# Altium schematic symbol library Type-C.SchLib: 3 symbols
Pins are listed as number, name and electrical type; pins without a type are passive.

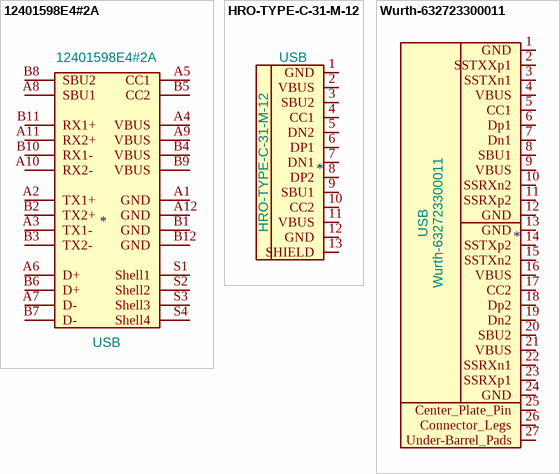
[diagram p0: symbols 12401598E4#2A to Wurth-632723300011]

## 12401598E4#2A
designator USB  value 12401598E4#2A
pins: A1 GND, A2 TX1+, A3 TX1-, A4 VBUS, A5 CC1, A6 D+, A7 D-, A8 SBU1, A9 VBUS, A10 RX2-, A11 RX2+, A12 GND, B1 GND, B2 TX2+, B3 TX2-, B4 VBUS, B5 CC2, B6 D+, B7 D-, B8 SBU2, B9 VBUS, B10 RX1-, B11 RX1+, B12 GND, S1 Shell1, S2 Shell2, S3 Shell3, S4 Shell4

## HRO-TYPE-C-31-M-12
designator USB  value HRO-TYPE-C-31-M-12
footprint HRO-TYPE-C-31-M-12
pins: 1 GND (power), 2 VBUS (power), 3 SBU2, 4 CC1, 5 DN2 (io), 6 DP1 (io), 7 DN1 (io), 8 DP2 (io), 9 SBU1, 10 CC2, 11 VBUS (power), 12 GND (power), 13 SHIELD

## Wurth-632723300011
designator USB  value Wurth-632723300011
pins: 1 GND, 2 SSTXXp1, 3 SSTXn1, 4 VBUS, 5 CC1, 6 Dp1, 7 Dn1, 8 SBU1, 9 VBUS, 10 SSRXn2, 11 SSRXp2, 12 GND, 13 GND, 14 SSTXp2, 15 SSTXn2, 16 VBUS, 17 CC2, 18 Dp2, 19 Dn2, 20 SBU2, 21 VBUS, 22 SSRXn1, 23 SSRXp1, 24 GND, 25 Center_Plate_Pin, 26 Connector_Legs, 27 Under-Barrel_Pads